# EAGLE library part MM7150 (library mm7150)
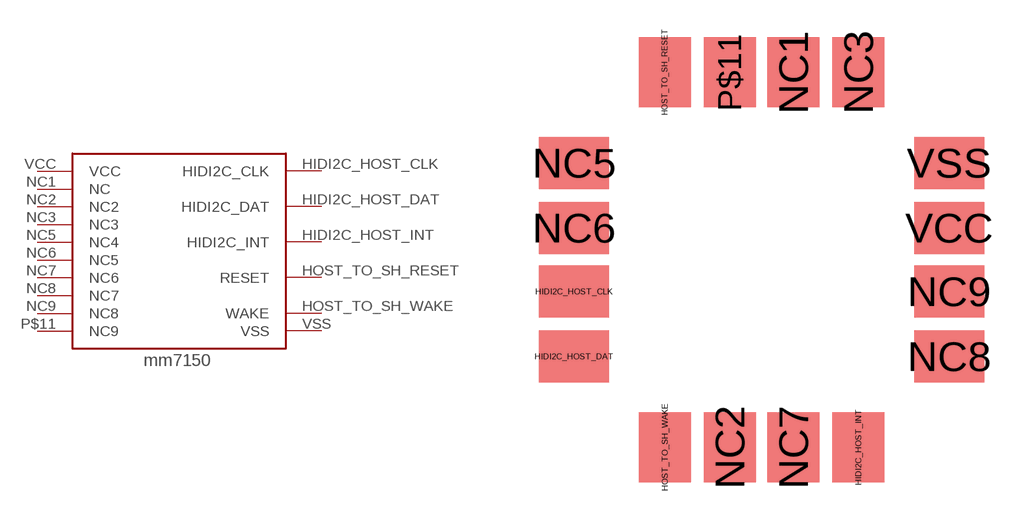
[diagram p0: symbol with the pads of MM7150-QFN16; footprint MM7150-QFN16]

Designator prefix -

## MM7150  [MM7150-QFN16]
HIDI2C_HOST_CLK  HIDI2C_CLK
HIDI2C_HOST_DAT  HIDI2C_DAT
HIDI2C_HOST_INT  HIDI2C_INT
HOST_TO_SH_RESET  RESET
HOST_TO_SH_WAKE  WAKE
NC1  NC
NC2  NC2
NC3  NC3
NC5  NC4
NC6  NC5
NC7  NC6
NC8  NC7
NC9  NC8
P$11  NC9
VCC  VCC
VSS  VSS

## Footprint MM7150-QFN16 (pad centres in mm)
QFN package of mm7150 fusion sensor board
smd 2.8 x 2.08: HIDI2C_HOST_CLK -7.52,-1.275; HIDI2C_HOST_DAT -7.52,-3.88; NC5 -7.52,3.88; NC6 -7.52,1.275; NC8 7.52,-3.88; NC9 7.52,-1.275; VCC 7.52,1.275; VSS 7.52,3.88
smd 2.08 x 2.8: HIDI2C_HOST_INT 3.88,-7.52; HOST_TO_SH_RESET -3.88,7.52; HOST_TO_SH_WAKE -3.88,-7.52; NC1 1.275,7.52; NC2 -1.275,-7.52; NC3 3.88,7.52; NC7 1.275,-7.52; P$11 -1.275,7.52